# EAGLE library part BUS_2013 (library BUS2013)
Modèle de carte pour bus INTech 2013. @Made by Nils.
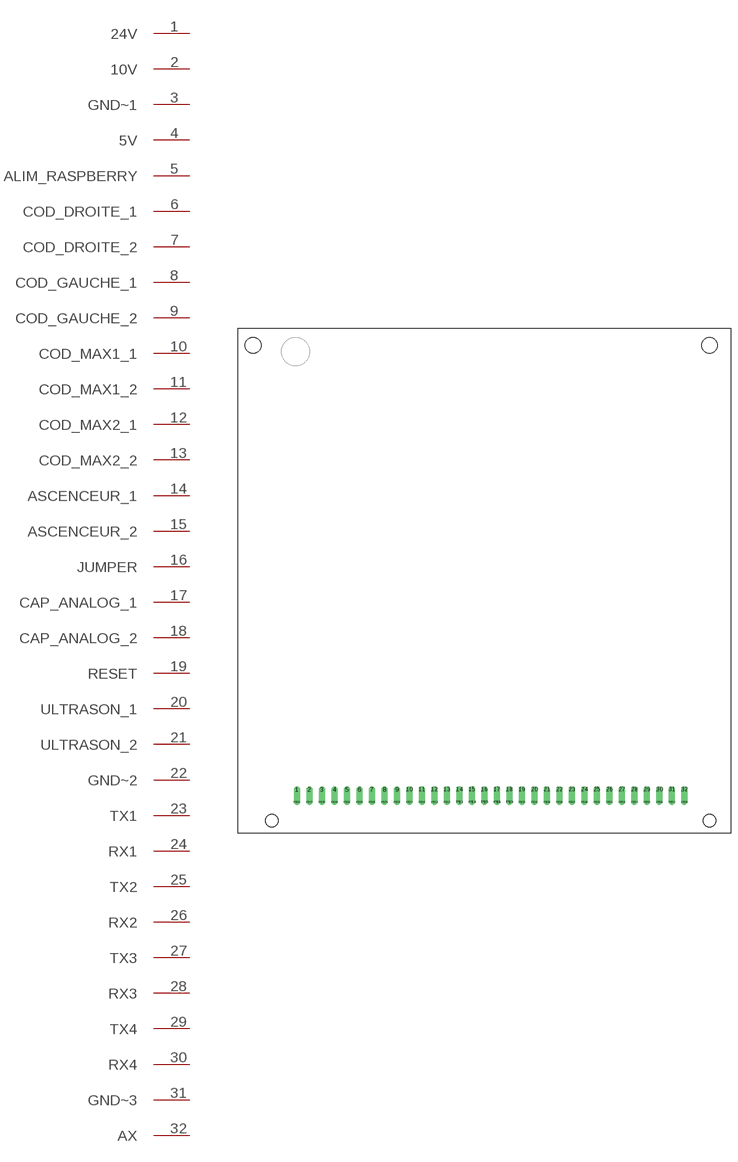
[diagram p0: symbol with the pads of BUS_2013; footprint BUS_2013]

Designator prefix -

## BUS_2013  [BUS_2013]
1  24V
2  10V
3  GND~1
4  5V
5  ALIM_RASPBERRY
6  COD_DROITE_1
7  COD_DROITE_2
8  COD_GAUCHE_1
9  COD_GAUCHE_2
10  COD_MAX1_1
11  COD_MAX1_2
12  COD_MAX2_1
13  COD_MAX2_2
14  ASCENCEUR_1
15  ASCENCEUR_2
16  JUMPER
17  CAP_ANALOG_1
18  CAP_ANALOG_2
19  RESET
20  ULTRASON_1
21  ULTRASON_2
22  GND~2
23  TX1
24  RX1
25  TX2
26  RX2
27  TX3
28  RX3
29  TX4
30  RX4
31  GND~3
32  AX

## Footprint BUS_2013 (pad centres in mm)
drill 0.8 offset: 1 -38.1,6.35; 2 -35.56,6.35; 3 -33.02,6.35; 4 -30.48,6.35; 5 -27.94,6.35; 6 -25.4,6.35; 7 -22.86,6.35; 8 -20.32,6.35; 9 -17.78,6.35; 10 -15.24,6.35; 11 -12.7,6.35; 12 -10.16,6.35; 13 -7.62,6.35; 14 -5.08,6.35; 15 -2.54,6.35; 16 0,6.35; 17 2.54,6.35; 18 5.08,6.35; 19 7.62,6.35; 20 10.16,6.35; 21 12.7,6.35; 22 15.24,6.35; 23 17.78,6.35; 24 20.32,6.35; 25 22.86,6.35; 26 25.4,6.35; 27 27.94,6.35; 28 30.48,6.35; 29 33.02,6.35; 30 35.56,6.35; 31 38.1,6.35; 32 40.64,6.35; P$1 -5.08,3.81; P$4 -2.54,3.81; P$5 0,3.81; P$8 2.54,3.81; P$9 5.08,3.81; P$12 -7.62,3.81; P$13 -10.16,3.81; P$16 -12.7,3.81; P$17 -15.24,3.81; P$20 7.62,3.81; P$21 10.16,3.81; P$24 -17.78,3.81; P$25 -20.32,3.81; P$28 -22.86,3.81; P$29 -25.4,3.81; P$32 -27.94,3.81; P$33 12.7,3.81; P$36 15.24,3.81; P$37 17.78,3.81; P$40 20.32,3.81; P$41 22.86,3.81; P$44 -30.48,3.81; P$45 -33.02,3.81; P$47 -35.56,3.81; P$50 -38.1,3.81; P$52 25.4,3.81; P$53 27.94,3.81; P$54 30.48,3.81; P$55 33.02,3.81; P$56 35.56,3.81; P$57 38.1,3.81; P$58 40.64,3.81
hole 3.2 at -46.99,96.52
hole 3.2 at 45.72,96.52